# EAGLE library part CY23EP05SXC-1 (library Cypress_By_element14_Batch_1)
2.5 V or 3.3 V,10-220-MHz, Low Jitter, 5 Output Zero Delay Buffer
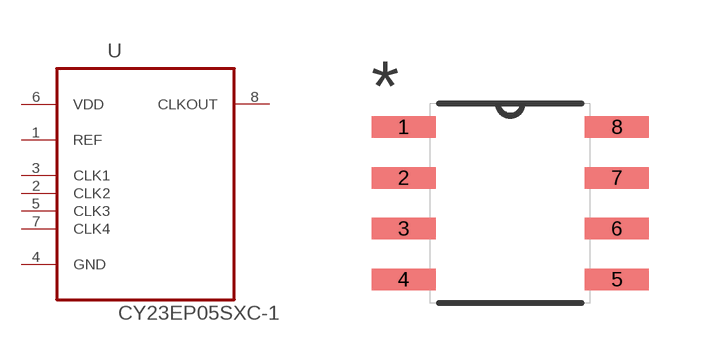
[diagram p11: symbol with the pads of SOIC127P600X172-8N; footprint SOIC127P600X172-8N]

Designator prefix U

## CY23EP05SXC-1 (DESCRIPTION: 2.5 V or 3.3 V,10-220-MHz, Low Jitter, 5 Output Zero Delay Buffer; MPN: CY23EP05SXC-1; OC_FARNELL: 1876345; OC_NEWARK: 19M5921; PACKAGE: SOIC-8; SUPPLIER: CYPRESS SEMICONDUCTOR)  [SOIC127P600X172-8N]
1  REF  in
2  CLK2  in
3  CLK1  in
4  GND  pas
5  CLK3  in
6  VDD  pwr
7  CLK4  in
8  CLKOUT  out

## Footprint SOIC127P600X172-8N (pad centres in mm)
smd 1.6 x 0.533: 1 -2.667,1.905; 2 -2.667,0.635; 3 -2.667,-0.635; 4 -2.667,-1.905; 5 2.667,-1.905; 6 2.667,-0.635; 7 2.667,0.635; 8 2.667,1.905